# EAGLE library part IMU_LSM6DS0XTR (library custom_girish)
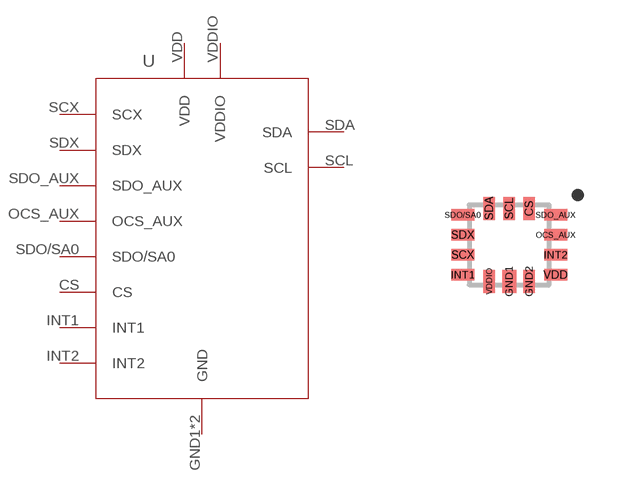
[diagram p0: symbol with the pads of IMU_LSM6DS0XTR; footprint IMU_LSM6DS0XTR]

Designator prefix U

## IMU_LSM6DS0XTR-IMU-LSM6DS0XTR (CREATOR: GIRISH K; DIST: Digikey; DISTPN: 497-18367-1-ND)  [IMU_LSM6DS0XTR]
CS  CS
GND1  GND
GND2  GND
INT1  INT1
INT2  INT2
OCS_AUX  OCS_AUX
SCL  SCL
SCX  SCX
SDA  SDA
SDO/SA0  SDO/SA0
SDO_AUX  SDO_AUX
SDX  SDX
VDD  VDD
VDDIO  VDDIO

## Footprint IMU_LSM6DS0XTR (pad centres in mm)
smd 0.29 x 0.575: CS 0.5,0.912; GND2 0.5,-0.912; SCL 0,0.912; SDA -0.5,0.912; VDDIO -0.5,-0.912
smd 0.35 x 0.575: GND1 0,-0.912
smd 0.575 x 0.29: INT1 -1.163,-0.75; INT2 1.163,-0.25; OCS_AUX 1.163,0.25; SCX -1.163,-0.25; SDO/SA0 -1.163,0.75; SDO_AUX 1.163,0.75; SDX -1.163,0.25; VDD 1.163,-0.75